# Altium schematic symbol library SchLib.SchLib: 42 symbols
Pins are listed as number, name and electrical type; pins without a type are passive.

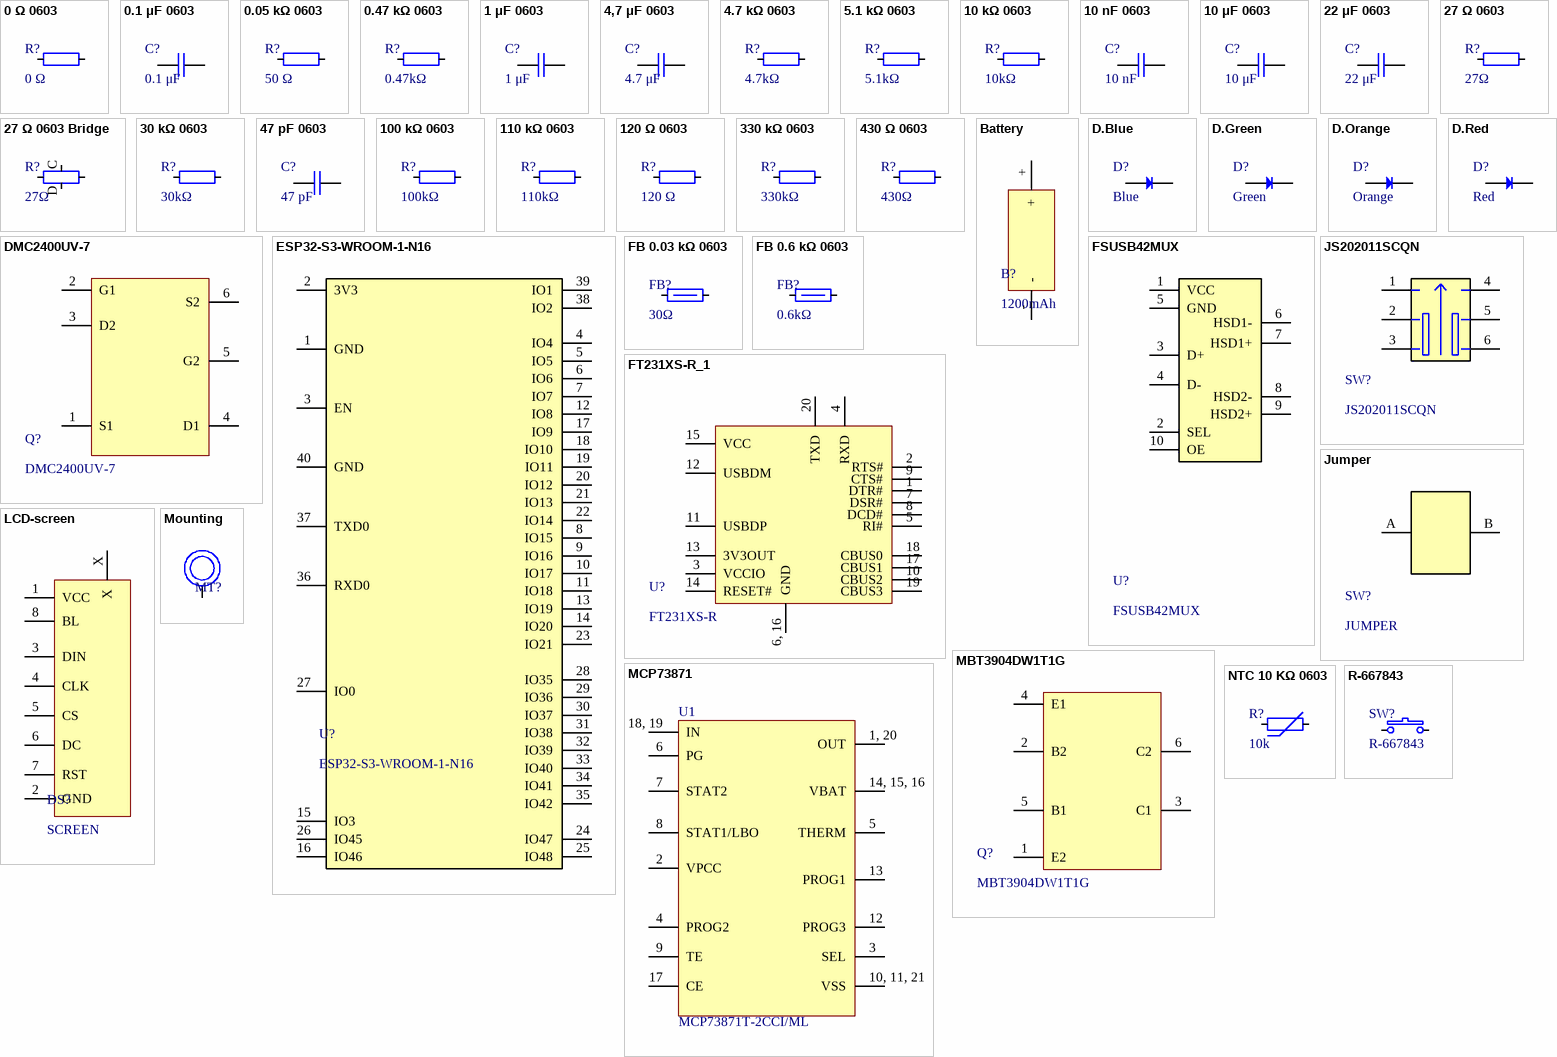
[diagram p0: symbols 0 Ω 0603 to R-667843]

## 0 Ω 0603
designator R?, comment 0 Ω
Resistor 0 Ω; Manufacturer: Stackpole Electronics Inc; Manufacturer Part Number: RMCF0603ZT0R00; Supplier 1: Digikey; Supplier Part Number 1: RMCF0603ZT0R00CT-ND; Value: 0 Ω
footprint Resistor 0603
pins: A, B

## 0.1 μF 0603
designator C?, comment 0.1 μF
Capacitor 0.1 μF; Manufacturer: Samsung Electro-Mechanics; Manufacturer Part Number: CL10B104KB8NNWC; Supplier 1: Digikey; Supplier Part Number 1: 1276-1935-1-ND; Value: 0.1 μF
footprint Capacitor 0603 (Capacitor0603)
pins: A, B

## 0.05 kΩ 0603
designator R?, comment 50 Ω
Resistor 50 Ω; Manufacturer: Vishay Dale; Manufacturer Part Number: CRCW060350R0FKEA; Supplier 1: Digikey; Supplier Part Number 1: 541-3318-1-ND; Value: 50 Ω
footprint Resistor 0603
pins: A, B

## 0.47 kΩ 0603
designator R?, comment 0.47kΩ
Resistor 470 Ω; Manufacturer: Stackpole Electronics Inc; Manufacturer Part Number: RMCF0603FT470R; Supplier 1: Digikey; Supplier Part Number 1: RMCF0603FT470RCT-ND; Value: 0.47kΩ
footprint Resistor 0603
pins: A, B

## 1 μF 0603
designator C?, comment 1 μF
Capacitor 1 μF; Manufacturer: Samsung Electro-Mechanics; Manufacturer Part Number: CL10A105KA8NNNC; Supplier 1: Digikey; Supplier Part Number 1: 1276-1102-1-ND; Value: 1 μF
footprint Capacitor 0603 (Capacitor0603)
pins: A, B

## 4,7 μF 0603
designator C?, comment 4.7 μF
Capacitor 4.7 μF; Manufacturer: Samsung Electro-Mechanics; Manufacturer Part Number: CL10A475KP8NNNC; Supplier 1: Digikey; Supplier Part Number 1: 1276-1044-1-ND; Value: 4.7 μF
footprint Capacitor 0603 (Capacitor0603)
pins: A, B

## 4.7 kΩ 0603
designator R?, comment 4.7kΩ
Resistor 4700 Ω; Manufacturer: Stackpole Electronics Inc; Manufacturer Part Number: RMCF0603FT4K70; Supplier 1: Digikey; Supplier Part Number 1: RMCF0603FT4K70CT-ND; Value: 4.7kΩ
footprint Resistor 0603
pins: A, B

## 5.1 kΩ 0603
designator R?, comment 5.1kΩ
Resistor 5100 Ω; Manufacturer: Stackpole Electronics IncStackpole Electronics Inc; Manufacturer Part Number: RMCF0603FT5K10; Supplier 1: Digikey; Supplier Part Number 1: RMCF0603FT5K10CT-ND; Value: 5.1kΩ
footprint Resistor 0603
pins: A, B

## 10 kΩ 0603
designator R?, comment 10kΩ
Resistor 10000 Ω; Manufacturer: Stackpole Electronics Inc; Manufacturer Part Number: RMCF0603FT10K0; Supplier 1: Digikey; Supplier Part Number 1: RMCF0603FT10K0CT-ND; Value: 10kΩ
footprint Resistor 0603
pins: A, B

## 10 nF 0603
designator C?, comment 10 nF
Capacitor 10 nF; Manufacturer: Samsung Electro-Mechanics; Manufacturer Part Number: CL10B103KB8NNNC; Supplier 1: Digikey; Supplier Part Number 1: 1276-1009-1-ND; Value: 10 nF
footprint Capacitor 0603 (Capacitor0603)
pins: A, B

## 10 μF 0603
designator C?, comment 10 μF
Capacitor 10 μF; Manufacturer: Samsung Electro-Mechanics; Manufacturer Part Number: CL10A106MQ8NNNC; Supplier 1: Digikey; Supplier Part Number 1: 1276-1119-1-ND; Value: 10 μF
footprint Capacitor 0603 (Capacitor0603)
pins: A, B

## 22 μF 0603
designator C?, comment 22 μF
Capacitor 22 μF; Manufacturer: Murata Electronics; Manufacturer Part Number: GRM188R60G226MEA0D; Supplier 1: Digikey; Supplier Part Number 1: 490-5526-1-ND; Value: 22 μF
footprint Capacitor 0603 (Capacitor0603)
pins: A, B

## 27 Ω 0603
designator R?, comment 27Ω
Resistor 27 Ω; Manufacturer: Stackpole Electronics Inc; Manufacturer Part Number: RMCF0603FT27R0; Supplier 1: Digikey; Supplier Part Number 1: RMCF0603FT27R0CT-ND; Value: 27Ω
footprint Resistor 0603
pins: A, B

## 27 Ω 0603 Bridge
designator R?, comment 27Ω
Resistor 27 Ω; Manufacturer: Stackpole Electronics Inc; Manufacturer Part Number: RMCF0603FT27R0; Supplier 1: Digikey; Supplier Part Number 1: RMCF0603FT27R0CT-ND; Value: 27Ω
footprint Resistor bridge (Resistor 0603)
pins: A, B, C, D

## 30 kΩ 0603
designator R?, comment 30kΩ
Resistor 30000 Ω; Manufacturer: YAGEO; Manufacturer Part Number: RC0603FR-0730KL; Supplier 1: Digikey; Supplier Part Number 1: 311-30.0KHRCT-ND; Value: 30kΩ
footprint Resistor 0603
pins: A, B

## 47 pF 0603
designator C?, comment 47 pF
Capacitor 47 pF; Manufacturer: Walsin Technology Corporation; Manufacturer Part Number: 0603N470J500CT; Supplier 1: Digikey; Supplier Part Number 1: 1292-1528-1-ND; Value: 47 pF
footprint Capacitor 0603 (Capacitor0603)
pins: A, B

## 100 kΩ 0603
designator R?, comment 100kΩ
Resistor 100000 Ω; Manufacturer: Stackpole Electronics Inc; Manufacturer Part Number: RMCF0603FT100K; Supplier 1: Digikey; Supplier Part Number 1: RMCF0603FT100KCT-ND; Value: 100kΩ
footprint Resistor 0603
pins: A, B

## 110 kΩ 0603
designator R?, comment 110kΩ
Resistor 110000 Ω; Manufacturer: Stackpole Electronics Inc; Manufacturer Part Number: RMCF0603FT110K; Supplier 1: Digikey; Supplier Part Number 1: RMCF0603FT110KCT-ND; Value: 110kΩ
footprint Resistor 0603
pins: A, B

## 120 Ω 0603
designator R?, comment 120 Ω
Resistor 120 Ω; Manufacturer: Stackpole Electronics Inc; Manufacturer Part Number: RMCF0603FT120R; Supplier 1: Digikey; Supplier Part Number 1: RMCF0603FT120RCT-ND; Value: 120 Ω
footprint Resistor 0603
pins: A, B

## 330 kΩ 0603
designator R?, comment 330kΩ
Resistor 330000 Ω; Manufacturer: YAGEO; Manufacturer Part Number: RC0603JR-07330KL; Supplier 1: Digikey; Supplier Part Number 1: 311-330KGRCT-ND; Value: 330kΩ
footprint Resistor 0603
pins: A, B

## 430 Ω 0603
designator R?, comment 430Ω
Resistor 430 Ω; Manufacturer: Stackpole Electronics Inc; Manufacturer Part Number: RMCF0603JT430R; Supplier 1: Digikey; Supplier Part Number 1: RMCF0603JT430RCT-ND; Value: 430Ω
footprint Resistor 0603
pins: A, B

## Battery
designator B?, comment 1200mAh
Lipobatteri - 103040 - 1.200 mAh; Manufacturer: batterikungen; Manufacturer Part Number: 103040; Supplier 1: Batterikungen; Supplier Part Number 1: 827-016; Value: 1200mAh
footprint battery
pins: +, -

## D.Blue
designator D?, comment Blue
Diode Blue; Manufacturer: Lite-On Inc.; Manufacturer Part Number: LTST-C193TBKT-5A; Supplier 1: Digikey; Supplier Part Number 1: 160-1827-1-ND; Value: Blue
footprint LED 0603
pins: A, B

## D.Green
designator D?, comment Green
Diode Green; Manufacturer: Lumex Opto/Components Inc.; Manufacturer Part Number: SML-LXFT0603GC-TR; Supplier 1: Digikey; Supplier Part Number 1: 67-SML-LXFT0603GC-TRCT-ND; Value: Green
footprint LED 0603
pins: A, B

## D.Orange
designator D?, comment Orange
Diode Orange; Manufacturer: Lite-On Inc.; Manufacturer Part Number: LTST-C191KFKT; Supplier 1: Digikey; Supplier Part Number 1: 160-1445-1-ND; Value: Orange
footprint LED 0603
pins: A, B

## D.Red
designator D?, comment Red
Diode Red; Manufacturer: Lite-On Inc.; Manufacturer Part Number: LTST-C190KRKT; Supplier 1: Digikey; Supplier Part Number 1: 160-1436-1-ND; Value: Red
footprint LED 0603
pins: A, B

## DMC2400UV-7
designator Q?
MOSFET N/P-CH 20V SOT563; Manufacturer: Diodes Incorporated; Supplier 1: Digikey; Supplier Part Number 1: DMC2400UV-7DICT-ND; Manufacturer Part Number: DMC2400UV-7
footprint MOSFET N/P-CH
pins: 1 S1, 2 G1, 3 D2, 4 D1, 5 G2, 6 S2

## ESP32-S3-WROOM-1-N16
designator U?
RF TXRX MODULE BT PCB TRACE SMD; Manufacturer: Espressif Systems; Supplier 1: Digikey; Supplier Part Number 1: 1965-ESP32-S3-WROOM-1-N16CT-ND; Manufacturer Part Number: ESP32-S3-WROOM-1-N16
footprint ESP32-C3-WROOM-1 (MCU)
pins: 1 GND, 2 3V3, 3 EN, 4 IO4, 5 IO5, 6 IO6, 7 IO7, 8 IO15, 9 IO16, 10 IO17, 11 IO18, 12 IO8, 13 IO19, 14 IO20, 15 IO3, 16 IO46, 17 IO9, 18 IO10, 19 IO11, 20 IO12, 21 IO13, 22 IO14, 23 IO21, 24 IO47, 25 IO48, 26 IO45, 27 IO0, 28 IO35, 29 IO36, 30 IO37, 31 IO38, 32 IO39, 33 IO40, 34 IO41, 35 IO42, 36 RXD0, 37 TXD0, 38 IO2, 39 IO1, 40 GND

## FB 0.03 kΩ 0603
designator FB?, comment 30Ω
Ferrite Bead 30 Ω; Manufacturer: TDK Corporation; Manufacturer Part Number: MPZ1608S300ATAH0; Supplier 1: Digikey; Supplier Part Number 1: 445-MPZ1608S300ATAH0CT-ND; Value: 30Ω
footprint Ferrite Bead 0603
pins: A, B

## FB 0.6 kΩ 0603
designator FB?, comment 0.6kΩ
Ferrite Bead 600 Ω; Manufacturer: Murata Electronics; Manufacturer Part Number: BLM18AG601SN1D; Supplier 1: Digikey; Supplier Part Number 1: 490-1014-1-ND; Value: 0.6kΩ
footprint Ferrite Bead 0603
pins: A, B

## FSUSB42MUX
designator U?
IC USB SWITCH DPDT 10MSOP; Manufacturer: onsemi; Supplier 1: Digikey; Supplier Part Number 1: FSUSB42MUXCT-ND; Manufacturer Part Number: FSUSB42MUX
footprint FSUSB42MUX
pins: 1 VCC, 2 SEL, 3 D+, 4 D-, 5 GND, 6 HSD1-, 7 HSD1+, 8 HSD2-, 9 HSD2+, 10 OE

## FT231XS-R_1
designator U?, comment FT231XS-R
IC USB SERIAL FULL UART 20SSOP; Manufacturer: FTDI, Future Technology Devices International Ltd; Supplier 1: Digikey; Supplier Part Number 1: 768-1129-1-ND; Manufacturer Part Number: FT231XS-R
footprint FT231XS-R (USB to UART Bridge)
pins: 1 DTR#, 2 RTS#, 3 VCCIO, 4 RXD, 5 RI#, 6, 16 GND, 7 DSR#, 8 DCD#, 9 CTS#, 10 CBUS2, 11 USBDP, 12 USBDM, 13 3V3OUT, 14 RESET#, 15 VCC, 17 CBUS1, 18 CBUS0, 19 CBUS3, 20 TXD

## JS202011SCQN
designator SW?
SWITCH SLIDE DPDT 300MA 6V; Manufacturer: C&K; Supplier 1: Digikey; Supplier Part Number 1: 401-2002-1-ND; Manufacturer Part Number: JS202011SCQN
footprint JS202011SCQN (SWITCH SLIDE DPDT 300MA 6V)
pins: 1, 2, 3, 4, 5, 6

## Jumper
designator SW?, comment JUMPER
footprint Jumper
pins: A 1, B 3

## LCD-screen
designator DS?, comment SCREEN
240×320, General 2.4inch LCD Display Module, 65K RGB; Manufacturer: FTDI, Future Technology Devices International Ltd; Supplier 1: Waveshare; Supplier Part Number 1: 768-1129-1-ND; Manufacturer Part Number: SCREEN
footprint Screen
pins: 1 VCC, 2 GND, 3 DIN, 4 CLK, 5 CS, 6 DC, 7 RST, 8 BL, X

## MBT3904DW1T1G
designator Q?
TRANS 2NPN 40V 0.2A SC88/SC70-6; Manufacturer: onsemi; Supplier 1: Digikey; Supplier Part Number 1: MBT3904DW1T1GOSCT-ND; Manufacturer Part Number: MBT3904DW1T1G
footprint 2NPN transistor
pins: 1 E2, 2 B2, 3 C1, 4 E1, 5 B1, 6 C2

## MCP73871
designator U1, comment MCP73871T-2CCI/ML
IC BATT CHG LI-ION 1CELL 20QFN; Manufacturer: Microchip Technology; Supplier 1: Digikey; Supplier Part Number 1: MCP73871T-2CCI/MLDKR-ND; Manufacturer Part Number: MCP73871T-2CCI/ML
footprint MCP73871
pins: 1, 20 OUT, 2 VPCC, 3 SEL, 4 PROG2, 5 THERM, 6 PG, 7 STAT2, 8 STAT1/LBO, 9 TE, 10, 11, 21 VSS, 12 PROG3, 13 PROG1, 14, 15, 16 VBAT, 17 CE, 18, 19 IN

## Mounting
designator MT?
footprint Mounting
pins: A

## NTC 10 KΩ 0603
designator R?, comment 10k
Thermistor 10000 Ω; Manufacturer: Panasonic Electronic Components; Manufacturer Part Number: ERT-J1VR103J; Supplier 1: Digikey; Supplier Part Number 1: P10547CT-ND; Value: 10k
footprint Thermistor 0603
pins: A, B

## R-667843
designator SW?
SWITCH TACTILE SPST-NO 0.05A 12V; Manufacturer: Mitsumi Electric Company Ltd; Supplier 1: Digikey; Supplier Part Number 1: 2508-R-667843CT-ND; Manufacturer Part Number: R-667843
footprint R-667843 (SWITCH TACTILE SPST-NO 0.05A 12V)
pins: A, B

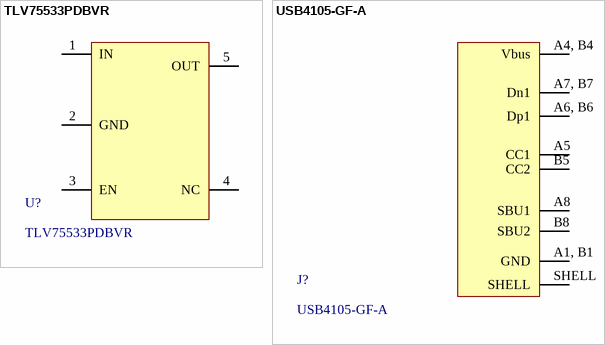
[diagram p1: symbols TLV75533PDBVR to USB4105-GF-A]

## TLV75533PDBVR
designator U?
IC REG LINEAR 3.3V 500MA SOT23-5; Manufacturer: Texas Instruments; Supplier 1: Digikey; Supplier Part Number 1: 296-50411-1-ND; Manufacturer Part Number: TLV75533PDBVR
footprint TLV75533PDBVR (IC REG LINEAR 3.3V 500MA SOT23-5)
pins: 1 IN, 2 GND, 3 EN, 4 NC, 5 OUT

## USB4105-GF-A
designator J?
CONN RCPT TYPE C 6P SMD RA; Manufacturer: GCT; Supplier 1: Digikey; Supplier Part Number 1: 2073-USB4105-GF-ACT-ND; Manufacturer Part Number: USB4105-GF-A
footprint USB4105-GF-A (CONN RCPT TYPE C 6P SMD RA)
pins: A1, B1 GND, A4, B4 Vbus, A5 CC1, A6, B6 Dp1, A7, B7 Dn1, A8 SBU1, B5 CC2, B8 SBU2, SHELL